# Altium schematic symbol library MICRON-MT28F160C3FD-11TET.schlib: 1 symbol
Pins are listed as number, name and electrical type; pins without a type are passive.

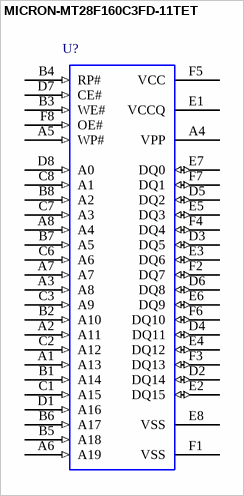
[diagram p0: symbol MICRON-MT28F160C3FD-11TET]

## MICRON-MT28F160C3FD-11TET
designator U?  (value not drawn)
1 MEG x 16 3V ENHANCED+ BOOT BLOCK FLASH MEMORY; CircuitryPartsPN: MICRON-MT28F160C3FD-11TET; ManufacturerPN: MT28F160C3FD-11TET; Manufacturer: Micron Technology Inc; CategoryI: Integrated Circuits (ICs); CategoryII: NOR FLASH MEMORY; SchematicRev: A; DesignedBy: Circuitry Parts; MfgURL: http://www.micron.com/; PackageName: FBGA46; FootprintName: *; Value: *; DesignedOn: 7/18/2005 3:14:31 PM
pins: A1 A13 (in), A2 A11 (in), A3 A8 (in), A4 VPP (power), A5 WP# (in), A6 A19 (in), A7 (in), A8 A4 (in), B1 A14 (in), B2 A10 (in), B3 WE# (in), B4 RP# (in), B5 A18 (in), B6 A17 (in), B7 A5 (in), B8 A2 (in), C1 A15 (in), C2 A12 (in), C3 A9 (in), C6 A6 (in), C7 A3 (in), C8 A1 (in), D1 A16 (in), D2 DQ14 (io), D3 DQ5 (io), D4 DQ11 (io), D5 DQ2 (io), D6 DQ8 (io), D7 CE# (in), D8 A0 (in), E1 VCCQ (power), E2 DQ15 (io), E3 DQ6 (io), E4 DQ12 (io), E5 DQ3 (io), E6 DQ9 (io), E7 DQ0 (io), E8 VSS (power), F1 VSS (power), F2 DQ7 (io), F3 DQ13 (io), F4 DQ4 (io), F5 VCC (power), F6 DQ10 (io), F7 DQ1 (io), F8 OE# (in)